# Altium schematic symbol library ANT_RC531.SCHLIB: 4 symbols
Pins are listed as number, name and electrical type; pins without a type are passive.

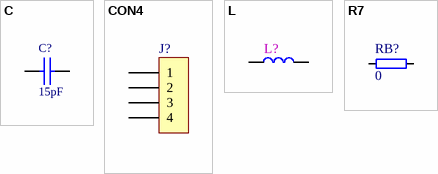
[diagram p0: symbols C to R7]

## C
designator C?, comment 15pF
Text Field1: 10; Text Field2: 20
footprint 0603
footprint 0805
footprint C5
footprint C7.5
footprint 0603C
pins: 1, 2
2 alternate drawings of the same symbol

## CON4
designator J?
Connector
footprint SIP4
pins: 1, 2, 3, 4

## L
designator L?
Text Field1: 10; Text Field2: 20
footprint 0603
footprint 0805
footprint L10
footprint R0402
footprint RC_ANT
pins: 1, 2
2 alternate drawings of the same symbol

## R7
designator RB?, comment 0
footprint axial0.5
footprint R0402
footprint R0603
pins: 1, 2
2 alternate drawings of the same symbol